# Altium footprint library PcbLib1.PcbLib: 5 footprints
Each footprint in its own frame and in the unit in brackets; x right, y up, seen from the top. Pads: shape width x height; smd on the part's side, far side on the other; paste and mask are expansions set on the pad; w line width, h text height; cw(c..) or ccw(c..) is an arc to the next point about the centre after c.
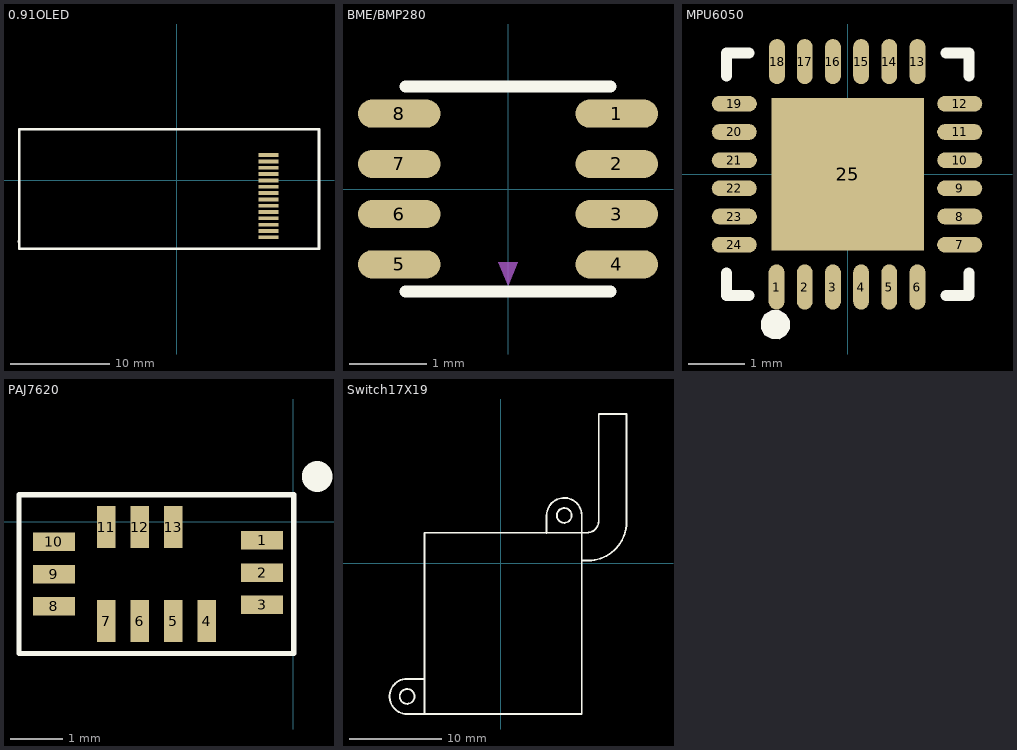
[diagram p0: the footprints below, top view; thin cyan lines are the x and y axes]

## 0.91OLED [mm] "30*11.50.91OLED"
pads (14):
  rect 2x0.38 smd: 1(9.188,-5.728) 2(9.188,-5.094) 3(9.188,-4.46) 4(9.188,-3.826) 5(9.188,-3.192) 6(9.188,-2.558) 7(9.188,-1.924) 8(9.188,-1.29) 9(9.188,-0.656) 10(9.188,-0.022) 11(9.188,0.612) 12(9.188,1.246) 13(9.188,1.88) 14(9.188,2.514)
Top Overlay:
  lines w0.254: -15.831,-6.197 -15.831,-6.121 ; -15.812,-6.883 14.188,-6.883 14.268,-6.883 14.268,5.117 -15.812,5.117 -15.812,-6.883

## BME/BMP280 [mm]
pads (8):
  oval 1.067x0.364 smd: 1(1.408,0.975) 2(1.408,0.325) 3(1.408,-0.325) 4(1.408,-0.975) 5(-1.408,-0.975) 6(-1.408,-0.325) 7(-1.408,0.325) 8(-1.408,0.975)
Top Overlay:
  lines w0.152: -1.326,-1.326 1.326,-1.326 ; -1.326,1.326 1.326,1.326
Mechanical 15:
  region: -1.012,0.926 -1.026,0.926 -1.026,0.996 -1.012,0.996
  region: -1.026,1.038 -1.04,1.038 -1.04,1.094 -1.026,1.094
  region: -1.026,0.912 -1.04,0.912 -1.04,1.01 -1.026,1.01
  region: -1.04,0.912 -1.054,0.912 -1.054,1.108 -1.04,1.108
  region: -1.054,0.968 -1.068,0.968 -1.068,1.122 -1.054,1.122
  region: -1.054,0.898 -1.068,0.898 -1.068,0.954 -1.054,0.954
  region: -1.068,1.08 -1.082,1.08 -1.082,1.122 -1.068,1.122
  region: -1.068,0.982 -1.082,0.982 -1.082,1.038 -1.068,1.038
  region: -1.068,0.898 -1.082,0.898 -1.082,0.94 -1.068,0.94
  region: -1.082,1.094 -1.096,1.094 -1.096,1.122 -1.082,1.122
  region: -1.082,0.996 -1.096,0.996 -1.096,1.024 -1.082,1.024
  region: -1.082,0.898 -1.096,0.898 -1.096,0.926 -1.082,0.926
  region: -1.096,1.094 -1.11,1.094 -1.11,1.122 -1.096,1.122
  region: -1.096,0.996 -1.11,0.996 -1.11,1.024 -1.096,1.024
  region: -1.096,0.898 -1.11,0.898 -1.11,0.926 -1.096,0.926
  region: -1.11,1.066 -1.124,1.066 -1.124,1.122 -1.11,1.122
  region: -1.11,0.982 -1.124,0.982 -1.124,1.052 -1.11,1.052
  region: -1.11,0.898 -1.124,0.898 -1.124,0.94 -1.11,0.94
  region: -1.124,0.898 -1.138,0.898 -1.138,1.122 -1.124,1.122
  region: -1.138,1.024 -1.152,1.024 -1.152,1.108 -1.138,1.108
  region: -1.138,0.912 -1.152,0.912 -1.152,1.01 -1.138,1.01
  region: -1.152,1.038 -1.166,1.038 -1.166,1.094 -1.152,1.094
  region: -1.152,0.912 -1.166,0.912 -1.166,1.01 -1.152,1.01
  region: -1.166,0.94 -1.18,0.94 -1.18,0.982 -1.166,0.982
  region: 1.166,0.94 1.152,0.94 1.152,0.968 1.166,0.968
  region: 1.152,0.94 1.138,0.94 1.138,0.968 1.152,0.968
  region: 1.138,0.926 1.124,0.926 1.124,0.968 1.138,0.968
  region: 1.124,0.912 1.11,0.912 1.11,0.954 1.124,0.954
  region: 1.11,0.912 1.096,0.912 1.096,1.122 1.11,1.122
  region: 1.096,0.898 1.082,0.898 1.082,1.122 1.096,1.122
  region: 1.082,0.898 1.068,0.898 1.068,1.122 1.082,1.122
  region: 1.068,0.898 1.054,0.898 1.054,1.122 1.068,1.122
  region: 0,-1.25 -0.125,-0.95 0.125,-0.95
3D body "kxtj9.stp": height 0.91, standoff 0, extent -1.5,-1.5 1.5,1.5

## MPU6050 [mm]
pads (25):
  oval 0.28x0.8 smd: 1(-1.262,-2) 2(-0.762,-2) 3(-0.262,-2) 4(0.238,-2) 5(0.738,-2) 6(1.238,-2) 13(1.238,2) 14(0.738,2) 15(0.238,2) 16(-0.262,2) 17(-0.762,2) 18(-1.254,2)
  oval 0.8x0.28 smd: 7(1.987,-1.25) 8(1.988,-0.75) 9(1.987,-0.25) 10(1.988,0.25) 11(1.987,0.75) 12(1.988,1.25) 19(-2.012,1.25) 20(-2.012,0.75) 21(-2.012,0.25) 22(-2.013,-0.25) 23(-2.012,-0.75) 24(-2.013,-1.25)
  rect 2.7x2.7 smd: 25(0,0)
Top Overlay:
  region: -1.028,-2.667 -1.029,-2.599 -1.097,-2.482 -1.215,-2.414 -1.351,-2.414 -1.469,-2.483 -1.536,-2.6 -1.536,-2.736 -1.469,-2.854 -1.351,-2.922 -1.215,-2.922 -1.097,-2.855 -1.029,-2.737 -1.028,-2.67
  lines w0.2: -2.15,-1.75 -2.15,-2.15 -1.75,-2.15 ; -2.15,1.75 -2.15,2.15 -1.75,2.15 ; 1.75,-2.15 2.15,-2.15 2.15,-1.75 ; 1.75,2.15 2.15,2.15 2.15,1.75
Mechanical 15:
  circle w0.254: c-1.282,-2.667 r0.127

## PAJ7620 [mm]
pads (13):
  rect 0.8x0.35 smd: 1(-0.593,-0.356) 2(-0.593,-0.966) 3(-0.593,-1.576) 8(-4.53,-1.601) 9(-4.53,-0.991) 10(-4.53,-0.381)
  rect 0.35x0.8 smd: 4(-1.635,-1.88) 5(-2.27,-1.88) 6(-2.905,-1.88) 7(-3.54,-1.88) 11(-3.54,-0.102) 12(-2.905,-0.102) 13(-2.27,-0.102)
Top Overlay:
  circle w0.508: c0.449,0.855 r0.036
  lines w0.1: -5.165,0.508 -5.191,0.508 ; -5.191,0.508 0.009,0.508 0.009,-2.492 -5.191,-2.492 -5.191,0.508

## Switch17X19 [mm]
Top Overlay:
  circle w0.203: c-10.12,-14.4 r0.8
  circle w0.203: c6.867,5.167 r0.8
  lines w0.203: -10.13,-12.5 ccw(c-10.12,-14.4) -10.12,-16.3 ; -10.13,-16.3 -8.23,-16.3 ; -10.13,-12.5 -8.23,-12.5 ; -8.255,3.302 -8.255,-16.3 8.763,-16.3 8.763,3.302 ; -8.237,3.302 8.763,3.302 ; 4.967,3.277 4.967,5.177 ; 4.967,5.167 cw(c6.867,5.167) 8.767,5.177 ; 8.767,3.277 8.767,5.177 ; 8.794,0.302 9.474,0.302 ccw(c9.474,4.422) 13.594,4.422 13.594,16.129 ; 13.594,16.135 10.594,16.135 10.594,4.572 cw(c9.324,4.572) 9.324,3.302 8.763,3.302